# EAGLE library part MK20DX*VLH7 (library IC_Embedded)
ARM® Cortex®-M4 Kinetis K20 Microcontroller IC 32-Bit 72MHz Datasheet <https://www.nxp.com/docs/en/data-sheet/K20P64M72SF1.pdf>
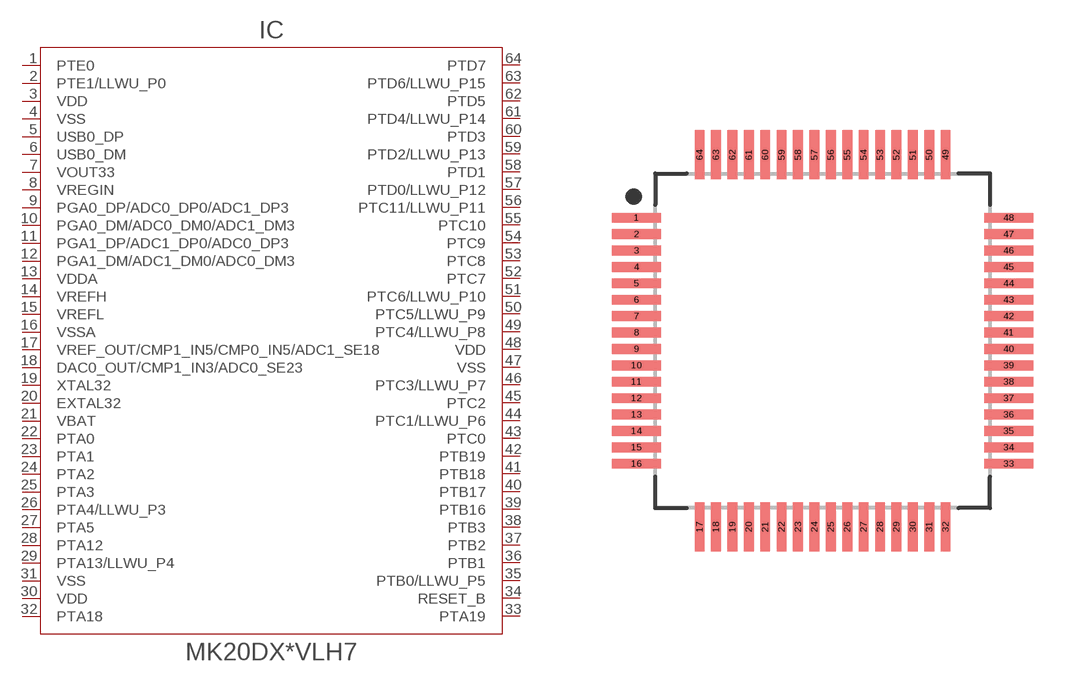
[diagram p21: symbol with the pads of QFP50P1200X1200X160-64N; footprint QFP50P1200X1200X160-64N]

Designator prefix IC

## MK20DX128VLH7 (CATEGORY: IC_Embedded; DESCRIPTION: ARM® Cortex®-M4 Kinetis K20 Microcontroller IC 32-Bit 72MHz 128KB (128K x 8) FLASH 64-LQFP (10x10); IO: 40; MANUFACTURER: NXP USA Inc.; MPN: MK20DX128VLH7; OPERATING_TEMP: -40°C to 105°C; PART_STATUS: Active; ROHS_COMPLIANT: COMPLIANT; SERIES: Kinetis K20; SPEED: 72 MHz; SUB-CATEGORY: Microcontroller; TYPE: 32 bit Microcontroller; VALUE: MK20DX128), MK20DX256VLH7 (CATEGORY: IC_Embedded; DESCRIPTION: ARM® Cortex®-M4 Kinetis K20 Microcontroller IC 32-Bit 72MHz 256KB (256K x 8) FLASH ,64-LQFP (10x10); IO: 40; MANUFACTURER: NXP USA Inc.; MPN: MK20DX256VLH7; OPERATING_TEMP: -40°C to 105°C; PART_STATUS: Active; ROHS_COMPLIANT: COMPLIANT; SERIES: Kinetis K20; SPEED: 72 MHz; SUB-CATEGORY: Microcontroller; TYPE: 32 bit Microcontroller; VALUE: MK20DX256), MK20DX64VLH7 (CATEGORY: IC_Embedded; DESCRIPTION: ARM® Cortex®-M4 Kinetis K20 Microcontroller IC 32-Bit 72MHz 64KB (64K x 8) FLASH 64-LQFP (10x10); IO: 40; MANUFACTURER: NXP USA Inc.; MPN: MK20DX64VLH7; OPERATING_TEMP: -40°C to 105°C; PART_STATUS: Active; ROHS_COMPLIANT: COMPLIANT; SERIES: Kinetis K20; SPEED: 72 MHz; SUB-CATEGORY: Microcontroller; TYPE: 32 bit Microcontroller; VALUE: MK20DX64)  [QFP50P1200X1200X160-64N]
1  PTE0
2  PTE1/LLWU_P0
3  VDD  pwr
4  VSS  pwr
5  USB0_DP
6  USB0_DM
7  VOUT33  out
8  VREGIN  in
9  PGA0_DP/ADC0_DP0/ADC1_DP3
10  PGA0_DM/ADC0_DM0/ADC1_DM3
11  PGA1_DP/ADC1_DP0/ADC0_DP3
12  PGA1_DM/ADC1_DM0/ADC0_DM3
13  VDDA  in
14  VREFH  in
15  VREFL  in
16  VSSA  in
17  VREF_OUT/CMP1_IN5/CMP0_IN5/ADC1_SE18
18  DAC0_OUT/CMP1_IN3/ADC0_SE23
19  XTAL32  out
20  EXTAL32  in
21  VBAT
22  PTA0
23  PTA1
24  PTA2
25  PTA3
26  PTA4/LLWU_P3
27  PTA5
28  PTA12
29  PTA13/LLWU_P4
30  VDD  pwr
31  VSS  pwr
32  PTA18
33  PTA19
34  RESET_B  in
35  PTB0/LLWU_P5
36  PTB1
37  PTB2
38  PTB3
39  PTB16
40  PTB17
41  PTB18
42  PTB19
43  PTC0
44  PTC1/LLWU_P6
45  PTC2
46  PTC3/LLWU_P7
47  VSS  in
48  VDD  in
49  PTC4/LLWU_P8
50  PTC5/LLWU_P9
51  PTC6/LLWU_P10
52  PTC7
53  PTC8
54  PTC9
55  PTC10
56  PTC11/LLWU_P11
57  PTD0/LLWU_P12
58  PTD1
59  PTD2/LLWU_P13
60  PTD3
61  PTD4/LLWU_P14
62  PTD5
63  PTD6/LLWU_P15
64  PTD7

## Footprint QFP50P1200X1200X160-64N (pad centres in mm)
64-QFP, 0.50 mm pitch, 12.00 mm span, 10.00 X 10.00 X 1.60 mm body 64-pin QFP package with 0.50 mm pitch, 12.00 mm lead span1 X 12.00 mm lead span2 with body size 10.00 X 10.00 X 1.60 mm
smd 1.5 x 0.3: 1 -5.672,3.75; 2 -5.672,3.25; 3 -5.672,2.75; 4 -5.672,2.25; 5 -5.672,1.75; 6 -5.672,1.25; 7 -5.672,0.75; 8 -5.672,0.25; 9 -5.672,-0.25; 10 -5.672,-0.75; 11 -5.672,-1.25; 12 -5.672,-1.75; 13 -5.672,-2.25; 14 -5.672,-2.75; 15 -5.672,-3.25; 16 -5.672,-3.75; 33 5.672,-3.75; 34 5.672,-3.25; 35 5.672,-2.75; 36 5.672,-2.25; 37 5.672,-1.75; 38 5.672,-1.25; 39 5.672,-0.75; 40 5.672,-0.25; 41 5.672,0.25; 42 5.672,0.75; 43 5.672,1.25; 44 5.672,1.75; 45 5.672,2.25; 46 5.672,2.75; 47 5.672,3.25; 48 5.672,3.75
smd 0.3 x 1.5: 17 -3.75,-5.672; 18 -3.25,-5.672; 19 -2.75,-5.672; 20 -2.25,-5.672; 21 -1.75,-5.672; 22 -1.25,-5.672; 23 -0.75,-5.672; 24 -0.25,-5.672; 25 0.25,-5.672; 26 0.75,-5.672; 27 1.25,-5.672; 28 1.75,-5.672; 29 2.25,-5.672; 30 2.75,-5.672; 31 3.25,-5.672; 32 3.75,-5.672; 49 3.75,5.672; 50 3.25,5.672; 51 2.75,5.672; 52 2.25,5.672; 53 1.75,5.672; 54 1.25,5.672; 55 0.75,5.672; 56 0.25,5.672; 57 -0.25,5.672; 58 -0.75,5.672; 59 -1.25,5.672; 60 -1.75,5.672; 61 -2.25,5.672; 62 -2.75,5.672; 63 -3.25,5.672; 64 -3.75,5.672